# EAGLE library part AD9854 (library DAC)
CMOS 300 MSPS Quadrature Complete DDS Source: http://www.analog.com/static/imported-files/data_sheets/AD9854.pdf
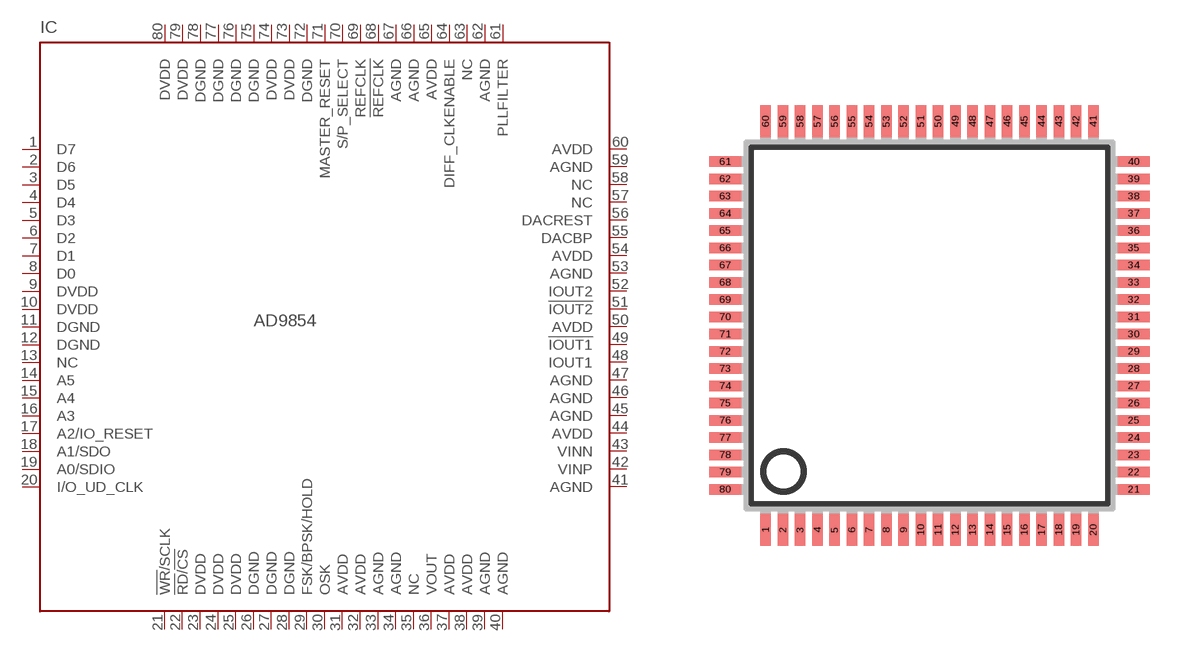
[diagram p146: symbol with the pads of LQFP80; footprint LQFP80]

Designator prefix IC

## AD9854 (MPN: AD9854ASTZ; OC_FARNELL: unknown; OC_NEWARK: 15P1074)  [LQFP80]
1  D7  hiz
2  D6  hiz
3  D5  hiz
4  D4  hiz
5  D3  hiz
6  D2  hiz
7  D1  hiz
8  D0  hiz
9  DVDD  pwr
10  DVDD  pwr
11  DGND  pwr
12  DGND  pwr
13  NC  nc
14  A5  in
15  A4  in
16  A3  in
17  A2/IO_RESET  in
18  A1/SDO  in
19  A0/SDIO  in
20  I/O_UD_CLK  in
21  !WR!/SCLK  in
22  !RD!/!CS!  in
23  DVDD  pwr
24  DVDD  pwr
25  DVDD  pwr
26  DGND  pwr
27  DGND  pwr
28  DGND  pwr
29  FSK/BPSK/HOLD  in
30  OSK  in
31  AVDD  pwr
32  AVDD  pwr
33  AGND  pwr
34  AGND  pwr
35  NC  nc
36  VOUT  out
37  AVDD  pwr
38  AVDD  pwr
39  AGND  pwr
40  AGND  pwr
41  AGND  pwr
42  VINP  in
43  VINN  in
44  AVDD  pwr
45  AGND  pwr
46  AGND  pwr
47  AGND  pwr
48  IOUT1  out
49  !IOUT1  out
50  AVDD  pwr
51  !IOUT2  out
52  IOUT2  out
53  AGND  pwr
54  AVDD  pwr
55  DACBP  in
56  DACREST  in
57  NC  nc
58  NC  nc
59  AGND  pwr
60  AVDD  pwr
61  PLLFILTER  in
62  AGND  pwr
63  NC  nc
64  DIFF_CLKENABLE  in
65  AVDD  pwr
66  AGND  pwr
67  AGND  pwr
68  !REFCLK  in
69  REFCLK  in
70  S/P_SELECT  in
71  MASTER_RESET  in
72  DGND  pwr
73  DVDD  pwr
74  DVDD  pwr
75  DGND  pwr
76  DGND  pwr
77  DGND  pwr
78  DGND  pwr
79  DVDD  pwr
80  DVDD  pwr

## Footprint LQFP80 (pad centres in mm)
80 Lead LQFP_ED (SQ-80) (ST-80) Source: www.analog.com .. AD9852_b.pdf
smd 0.4 x 1.2: 1 -6.175,-7.7; 2 -5.525,-7.7; 3 -4.875,-7.7; 4 -4.225,-7.7; 5 -3.575,-7.7; 6 -2.925,-7.7; 7 -2.275,-7.7; 8 -1.625,-7.7; 9 -0.975,-7.7; 10 -0.325,-7.7; 11 0.325,-7.7; 12 0.975,-7.7; 13 1.625,-7.7; 14 2.275,-7.7; 15 2.925,-7.7; 16 3.575,-7.7; 17 4.225,-7.7; 18 4.875,-7.7; 19 5.525,-7.7; 20 6.175,-7.7; 41 6.175,7.7; 42 5.525,7.7; 43 4.875,7.7; 44 4.225,7.7; 45 3.575,7.7; 46 2.925,7.7; 47 2.275,7.7; 48 1.625,7.7; 49 0.975,7.7; 50 0.325,7.7; 51 -0.325,7.7; 52 -0.975,7.7; 53 -1.625,7.7; 54 -2.275,7.7; 55 -2.925,7.7; 56 -3.575,7.7; 57 -4.225,7.7; 58 -4.875,7.7; 59 -5.525,7.7; 60 -6.175,7.7
smd 1.2 x 0.4: 21 7.7,-6.175; 22 7.7,-5.525; 23 7.7,-4.875; 24 7.7,-4.225; 25 7.7,-3.575; 26 7.7,-2.925; 27 7.7,-2.275; 28 7.7,-1.625; 29 7.7,-0.975; 30 7.7,-0.325; 31 7.7,0.325; 32 7.7,0.975; 33 7.7,1.625; 34 7.7,2.275; 35 7.7,2.925; 36 7.7,3.575; 37 7.7,4.225; 38 7.7,4.875; 39 7.7,5.525; 40 7.7,6.175; 61 -7.7,6.175; 62 -7.7,5.525; 63 -7.7,4.875; 64 -7.7,4.225; 65 -7.7,3.575; 66 -7.7,2.925; 67 -7.7,2.275; 68 -7.7,1.625; 69 -7.7,0.975; 70 -7.7,0.325; 71 -7.7,-0.325; 72 -7.7,-0.975; 73 -7.7,-1.625; 74 -7.7,-2.275; 75 -7.7,-2.925; 76 -7.7,-3.575; 77 -7.7,-4.225; 78 -7.7,-4.875; 79 -7.7,-5.525; 80 -7.7,-6.175